# Altium footprint library 5015680207.PcbLib: 1 footprints
Each footprint in its own frame and in the unit in brackets; x right, y up, seen from the top. Pads: shape width x height; smd on the part's side, far side on the other; paste and mask are expansions set on the pad; w line width, h text height; cw(c..) or ccw(c..) is an arc to the next point about the centre after c.
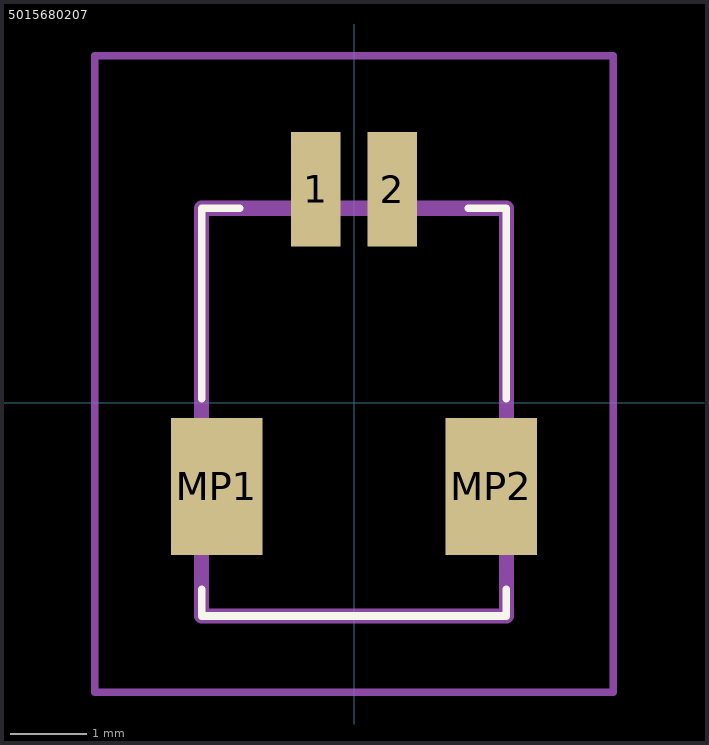
[diagram p0: the footprint, top view; thin cyan lines are the x and y axes]

## 5015680207 [mm]
pads (4):
  rect 0.65x1.5 smd: 1(-0.5,2.8) 2(0.5,2.8)
  rect 1.2x1.8 smd: MP1(-1.8,-1.1) MP2(1.8,-1.1)
Top Overlay:
  lines w0.1: -2,-2.45 -2,-2.8 2,-2.8 2,-2.45 ; -2,0.05 -2,2.55 -1.5,2.55 ; 1.5,2.55 2,2.55 2,0.05
Mechanical 15:
  lines w0.2: -2,-2.8 2,-2.8 2,2.55 -2,2.55 -2,-2.8
Mechanical 20:
  lines w0.1: -3.4,-3.8 3.4,-3.8 3.4,4.55 -3.4,4.55 -3.4,-3.8